# Altium footprint library Board to Board.PcbLib: 3 footprints
Each footprint in its own frame and in the unit in brackets; x right, y up, seen from the top. Pads: shape width x height; smd on the part's side, far side on the other; paste and mask are expansions set on the pad; w line width, h text height; cw(c..) or ccw(c..) is an arc to the next point about the centre after c.
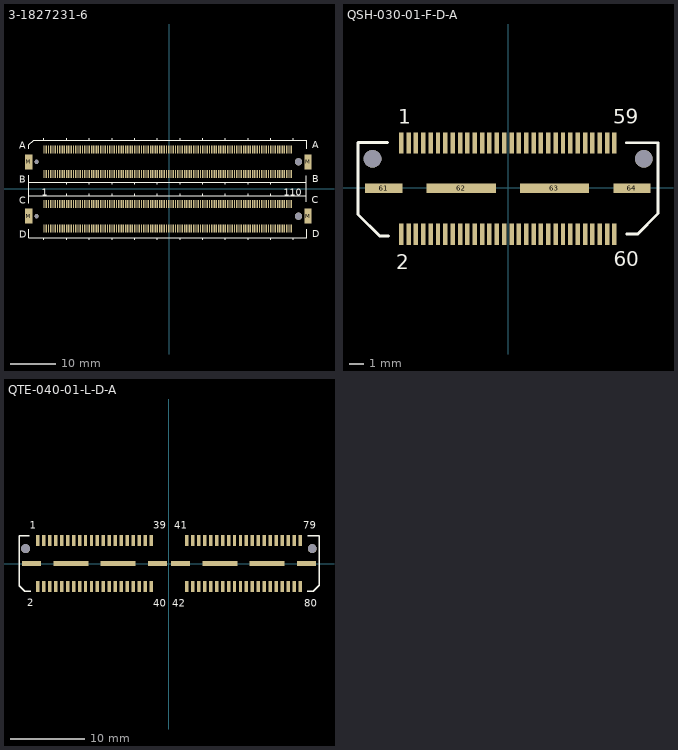
[diagram p0: the footprints below, top view; thin cyan lines are the x and y axes]

## 3-1827231-6 [mm] "FH-0.5 Board-To-Board Connector 440P"
height 5
pads (448):
  rect 0.3x1.75 smd: A001(-27.6,8.6) A002(-27.1,8.6) A003(-26.6,8.6) A004(-26.1,8.6) A005(-25.6,8.6) A006(-25.1,8.6) A007(-24.6,8.6) A008(-24.1,8.6) A009(-23.6,8.6) A010(-23.1,8.6) A011(-22.6,8.6) A012(-22.1,8.6) A013(-21.6,8.6) A014(-21.1,8.6) A015(-20.6,8.6) A016(-20.1,8.6) A017(-19.6,8.6) A018(-19.1,8.6) A019(-18.6,8.6) A020(-18.1,8.6) A021(-17.6,8.6) A022(-17.1,8.6) A023(-16.6,8.6) A024(-16.1,8.6) A025(-15.6,8.6) A026(-15.1,8.6) A027(-14.6,8.6) A028(-14.1,8.6) A029(-13.6,8.6) A030(-13.1,8.6) A031(-12.6,8.6) A032(-12.1,8.6) A033(-11.6,8.6) A034(-11.1,8.6) A035(-10.6,8.6) A036(-10.1,8.6) A037(-9.6,8.6) A038(-9.1,8.6) A039(-8.6,8.6) A040(-8.1,8.6) A041(-7.6,8.6) A042(-7.1,8.6) A043(-6.6,8.6) A044(-6.1,8.6) A045(-5.6,8.6) A046(-5.1,8.6) A047(-4.6,8.6) A048(-4.1,8.6) A049(-3.6,8.6) A050(-3.1,8.6) A051(-2.6,8.6) A052(-2.1,8.6) A053(-1.6,8.6) A054(-1.1,8.6) A055(-0.6,8.6) A056(-0.1,8.6) A057(0.4,8.6) A058(0.9,8.6) A059(1.4,8.6) A060(1.9,8.6) A061(2.4,8.6) A062(2.9,8.6) A063(3.4,8.6) A064(3.9,8.6) A065(4.4,8.6) A066(4.9,8.6) A067(5.4,8.6) A068(5.9,8.6) A069(6.4,8.6) A070(6.9,8.6) A071(7.4,8.6) A072(7.9,8.6) A073(8.4,8.6) A074(8.9,8.6) A075(9.4,8.6) A076(9.9,8.6) A077(10.4,8.6) A078(10.9,8.6) A079(11.4,8.6) A080(11.9,8.6) A081(12.4,8.6) A082(12.9,8.6) A083(13.4,8.6) A084(13.9,8.6) A085(14.4,8.6) A086(14.9,8.6) A087(15.4,8.6) A088(15.9,8.6) A089(16.4,8.6) A090(16.9,8.6) A091(17.4,8.6) A092(17.9,8.6) A093(18.4,8.6) A094(18.9,8.6) A095(19.4,8.6) A096(19.9,8.6) A097(20.4,8.6) A098(20.9,8.6) A099(21.4,8.6) A100(21.9,8.6) A101(22.4,8.6) A102(22.9,8.6) A103(23.4,8.6) A104(23.9,8.6) A105(24.4,8.6) A106(24.9,8.6) A107(25.4,8.6) A108(25.9,8.6) A109(26.4,8.6) A110(26.9,8.6) B001(-27.6,3.2) B002(-27.1,3.2) B003(-26.6,3.2) B004(-26.1,3.2) B005(-25.6,3.2) B006(-25.1,3.2) B007(-24.6,3.2) B008(-24.1,3.2) B009(-23.6,3.2) B010(-23.1,3.2) B011(-22.6,3.2) B012(-22.1,3.2) B013(-21.6,3.2) B014(-21.1,3.2) B015(-20.6,3.2) B016(-20.1,3.2) B017(-19.6,3.2) B018(-19.1,3.2) B019(-18.6,3.2) B020(-18.1,3.2) B021(-17.6,3.2) B022(-17.1,3.2) B023(-16.6,3.2) B024(-16.1,3.2) B025(-15.6,3.2) B026(-15.1,3.2) B027(-14.6,3.2) B028(-14.1,3.2) B029(-13.6,3.2) B030(-13.1,3.2) B031(-12.6,3.2) B032(-12.1,3.2) B033(-11.6,3.2) B034(-11.1,3.2) B035(-10.6,3.2) B036(-10.1,3.2) B037(-9.6,3.2) B038(-9.1,3.2) B039(-8.6,3.2) B040(-8.1,3.2) B041(-7.6,3.2) B042(-7.1,3.2) B043(-6.6,3.2) B044(-6.1,3.2) B045(-5.6,3.2) B046(-5.1,3.2) B047(-4.6,3.2) B048(-4.1,3.2) B049(-3.6,3.2) B050(-3.1,3.2) B051(-2.6,3.2) B052(-2.1,3.2) B053(-1.6,3.2) B054(-1.1,3.2) B055(-0.6,3.2) B056(-0.1,3.2) B057(0.4,3.2) B058(0.9,3.2) B059(1.4,3.2) B060(1.9,3.2) B061(2.4,3.2) B062(2.9,3.2) B063(3.4,3.2) B064(3.9,3.2) B065(4.4,3.2) B066(4.9,3.2) B067(5.4,3.2) B068(5.9,3.2) B069(6.4,3.2) B070(6.9,3.2) B071(7.4,3.2) B072(7.9,3.2) B073(8.4,3.2) B074(8.9,3.2) B075(9.4,3.2) B076(9.9,3.2) B077(10.4,3.2) B078(10.9,3.2) B079(11.4,3.2) B080(11.9,3.2) B081(12.4,3.2) B082(12.9,3.2) B083(13.4,3.2) B084(13.9,3.2) B085(14.4,3.2) B086(14.9,3.2) B087(15.4,3.2) B088(15.9,3.2) B089(16.4,3.2) B090(16.9,3.2) B091(17.4,3.2) B092(17.9,3.2) B093(18.4,3.2) B094(18.9,3.2) B095(19.4,3.2) B096(19.9,3.2) B097(20.4,3.2) B098(20.9,3.2) B099(21.4,3.2) B100(21.9,3.2) B101(22.4,3.2) B102(22.9,3.2) B103(23.4,3.2) B104(23.9,3.2) B105(24.4,3.2) B106(24.9,3.2) B107(25.4,3.2) B108(25.9,3.2) B109(26.4,3.2) B110(26.9,3.2) C001(-27.6,-3.4) C002(-27.1,-3.4) C003(-26.6,-3.4) C004(-26.1,-3.4) C005(-25.6,-3.4) C006(-25.1,-3.4) C007(-24.6,-3.4) C008(-24.1,-3.4) C009(-23.6,-3.4) C010(-23.1,-3.4) C011(-22.6,-3.4) C012(-22.1,-3.4) C013(-21.6,-3.4) C014(-21.1,-3.4) C015(-20.6,-3.4) C016(-20.1,-3.4) C017(-19.6,-3.4) C018(-19.1,-3.4) C019(-18.6,-3.4) C020(-18.1,-3.4) C021(-17.6,-3.4) C022(-17.1,-3.4) C023(-16.6,-3.4) C024(-16.1,-3.4) C025(-15.6,-3.4) C026(-15.1,-3.4) C027(-14.6,-3.4) C028(-14.1,-3.4) C029(-13.6,-3.4) C030(-13.1,-3.4) C031(-12.6,-3.4) C032(-12.1,-3.4) C033(-11.6,-3.4) C034(-11.1,-3.4) C035(-10.6,-3.4) C036(-10.1,-3.4) C037(-9.6,-3.4) C038(-9.1,-3.4) C039(-8.6,-3.4) C040(-8.1,-3.4) C041(-7.6,-3.4) C042(-7.1,-3.4) C043(-6.6,-3.4) C044(-6.1,-3.4) C045(-5.6,-3.4) C046(-5.1,-3.4) C047(-4.6,-3.4) C048(-4.1,-3.4) C049(-3.6,-3.4) C050(-3.1,-3.4) C051(-2.6,-3.4) C052(-2.1,-3.4) C053(-1.6,-3.4) C054(-1.1,-3.4) C055(-0.6,-3.4) C056(-0.1,-3.4) C057(0.4,-3.4) C058(0.9,-3.4) C059(1.4,-3.4) C060(1.9,-3.4) C061(2.4,-3.4) C062(2.9,-3.4) C063(3.4,-3.4) C064(3.9,-3.4) C065(4.4,-3.4) C066(4.9,-3.4) C067(5.4,-3.4) C068(5.9,-3.4) C069(6.4,-3.4) C070(6.9,-3.4) C071(7.4,-3.4) C072(7.9,-3.4) C073(8.4,-3.4) C074(8.9,-3.4) C075(9.4,-3.4) C076(9.9,-3.4) C077(10.4,-3.4) C078(10.9,-3.4) C079(11.4,-3.4) C080(11.9,-3.4) C081(12.4,-3.4) C082(12.9,-3.4) C083(13.4,-3.4) C084(13.9,-3.4) C085(14.4,-3.4) C086(14.9,-3.4) C087(15.4,-3.4) C088(15.9,-3.4) C089(16.4,-3.4) C090(16.9,-3.4) C091(17.4,-3.4) C092(17.9,-3.4) C093(18.4,-3.4) C094(18.9,-3.4) C095(19.4,-3.4) C096(19.9,-3.4) C097(20.4,-3.4) C098(20.9,-3.4) C099(21.4,-3.4) C100(21.9,-3.4) C101(22.4,-3.4) C102(22.9,-3.4) C103(23.4,-3.4) C104(23.9,-3.4) C105(24.4,-3.4) C106(24.9,-3.4) C107(25.4,-3.4) C108(25.9,-3.4) C109(26.4,-3.4) C110(26.9,-3.4) D001(-27.6,-8.8) D002(-27.1,-8.8) D003(-26.6,-8.8) D004(-26.1,-8.8) D005(-25.6,-8.8) D006(-25.1,-8.8) D007(-24.6,-8.8) D008(-24.1,-8.8) D009(-23.6,-8.8) D010(-23.1,-8.8) D011(-22.6,-8.8) D012(-22.1,-8.8) D013(-21.6,-8.8) D014(-21.1,-8.8) D015(-20.6,-8.8) D016(-20.1,-8.8) D017(-19.6,-8.8) D018(-19.1,-8.8) D019(-18.6,-8.8) D020(-18.1,-8.8) D021(-17.6,-8.8) D022(-17.1,-8.8) D023(-16.6,-8.8) D024(-16.1,-8.8) D025(-15.6,-8.8) D026(-15.1,-8.8) D027(-14.6,-8.8) D028(-14.1,-8.8) D029(-13.6,-8.8) D030(-13.1,-8.8) D031(-12.6,-8.8) D032(-12.1,-8.8) D033(-11.6,-8.8) D034(-11.1,-8.8) D035(-10.6,-8.8) D036(-10.1,-8.8) D037(-9.6,-8.8) D038(-9.1,-8.8) D039(-8.6,-8.8) D040(-8.1,-8.8) D041(-7.6,-8.8) D042(-7.1,-8.8) D043(-6.6,-8.8) D044(-6.1,-8.8) D045(-5.6,-8.8) D046(-5.1,-8.8) D047(-4.6,-8.8) D048(-4.1,-8.8) D049(-3.6,-8.8) D050(-3.1,-8.8) D051(-2.6,-8.8) D052(-2.1,-8.8) D053(-1.6,-8.8) D054(-1.1,-8.8) D055(-0.6,-8.8) D056(-0.1,-8.8) D057(0.4,-8.8) D058(0.9,-8.8) D059(1.4,-8.8) D060(1.9,-8.8) D061(2.4,-8.8) D062(2.9,-8.8) D063(3.4,-8.8) D064(3.9,-8.8) D065(4.4,-8.8) D066(4.9,-8.8) D067(5.4,-8.8) D068(5.9,-8.8) D069(6.4,-8.8) D070(6.9,-8.8) D071(7.4,-8.8) D072(7.9,-8.8) D073(8.4,-8.8) D074(8.9,-8.8) D075(9.4,-8.8) D076(9.9,-8.8) D077(10.4,-8.8) D078(10.9,-8.8) D079(11.4,-8.8) D080(11.9,-8.8) D081(12.4,-8.8) D082(12.9,-8.8) D083(13.4,-8.8) D084(13.9,-8.8) D085(14.4,-8.8) D086(14.9,-8.8) D087(15.4,-8.8) D088(15.9,-8.8) D089(16.4,-8.8) D090(16.9,-8.8) D091(17.4,-8.8) D092(17.9,-8.8) D093(18.4,-8.8) D094(18.9,-8.8) D095(19.4,-8.8) D096(19.9,-8.8) D097(20.4,-8.8) D098(20.9,-8.8) D099(21.4,-8.8) D100(21.9,-8.8) D101(22.4,-8.8) D102(22.9,-8.8) D103(23.4,-8.8) D104(23.9,-8.8) D105(24.4,-8.8) D106(24.9,-8.8) D107(25.4,-8.8) D108(25.9,-8.8) D109(26.4,-8.8) D110(26.9,-8.8)
  round 0.9 hole 0.9 unplated paste+0 mask+0: H09(-29.2,-6.1) H09(-29.2,5.9)
  round 1.6 hole 1.6 unplated paste+0 mask+0: H16(28.5,-6.1) H16(28.5,5.9)
  rect 1.65x3.3 smd: M(-30.9,-6.1) M(-30.9,5.9) M(30.6,-6.1) M(30.6,5.9)
Top Overlay:
  lines w0.254: -30.9,-9 -30.9,-10.8 30.3,-10.8 30.3,-9 ; -30.9,-3.2 -30.9,2.9 ; -30.9,-1.6 30.2,-1.6 ; -30.9,8.8 -30.9,9.6 -29.9,10.6 30.3,10.6 30.3,8.8 ; -30.8,1.4 30.2,1.4 ; -27.6,-11.3 -27.6,-10.8 ; -27.6,10.6 -27.6,11.1 ; -22.6,-11.3 -22.6,-10.8 ; -22.6,-1.6 -22.6,-1.1 ; -22.6,0.9 -22.6,1.4 ; -22.6,10.6 -22.6,11.1 ; -17.6,-11.3 -17.6,-10.8 ; -17.6,-1.6 -17.6,-1.1 ; -17.6,0.9 -17.6,1.4 ; -17.6,10.6 -17.6,11.1 ; -12.6,-11.3 -12.6,-10.8 ; -12.6,-1.6 -12.6,-1.1 ; -12.6,0.9 -12.6,1.4 ; -12.6,10.6 -12.6,11.1 ; -7.6,-11.3 -7.6,-10.8 ; -7.6,-1.6 -7.6,-1.1 ; -7.6,0.9 -7.6,1.4 ; -7.6,10.6 -7.6,11.1 ; -2.6,-11.3 -2.6,-10.8 ; -2.6,-1.6 -2.6,-1.1 ; -2.6,0.9 -2.6,1.4 ; -2.6,10.6 -2.6,11.1 ; 2.4,-11.3 2.4,-10.8 ; 2.4,-1.6 2.4,-1.1 ; 2.4,0.9 2.4,1.4 ; 2.4,10.6 2.4,11.1 ; 7.4,-11.3 7.4,-10.8 ; 7.4,-1.6 7.4,-1.1 ; 7.4,0.9 7.4,1.4 ; 7.4,10.6 7.4,11.1 ; 12.4,-11.3 12.4,-10.8 ; 12.4,-1.6 12.4,-1.1 ; 12.4,0.9 12.4,1.4 ; 12.4,10.6 12.4,11.1 ; 17.4,-11.3 17.4,-10.8 ; 17.4,-1.6 17.4,-1.1 ; 17.4,0.9 17.4,1.4 ; 17.4,10.6 17.4,11.1 ; 22.4,-11.3 22.4,-10.8 ; 22.4,-1.6 22.4,-1.1 ; 22.4,0.9 22.4,1.4 ; 22.4,10.6 22.4,11.1 ; 27.4,-11.3 27.4,-10.8 ; 27.4,10.6 27.4,11.1 ; 30.2,-2.9 30.2,2.8
  text "D" at 31.5,-10.7 h1.52
  text "C" at 31.4,-3.2 h1.52
  text "B" at 31.5,1.4 h1.52
  text "A" at 31.5,8.9 h1.52
  text "A" at -33,8.8 h1.52
  text "B" at -33,1.3 h1.52
  text "C" at -33.1,-3.3 h1.52
  text "D" at -33,-10.8 h1.52
  text "1" at -28.1,-1.6 h1.52
  text "110" at 25.3,-1.6 h1.52
3D body "11530.stp": height 3.25, standoff -0.65, extent -31.2,-9 30.6,9.2

## QSH-030-01-F-D-A [mm] "CONN HEADER 60POS 0.5MM SMT"
height 8
pads (66):
  rect 0.305x1.45 smd mask+0.05: 1(-7.26,3.05) 2(-7.26,-3.15) 3(-6.76,3.05) 4(-6.76,-3.15) 5(-6.26,3.05) 6(-6.26,-3.15) 7(-5.76,3.05) 8(-5.76,-3.15) 9(-5.26,3.05) 10(-5.26,-3.15) 11(-4.76,3.05) 12(-4.76,-3.15) 13(-4.26,3.05) 14(-4.26,-3.15) 15(-3.76,3.05) 16(-3.76,-3.15) 17(-3.26,3.05) 18(-3.26,-3.15) 19(-2.76,3.05) 20(-2.76,-3.15) 21(-2.26,3.05) 22(-2.26,-3.15) 23(-1.76,3.05) 24(-1.76,-3.15) 25(-1.26,3.05) 26(-1.26,-3.15) 27(-0.76,3.05) 28(-0.76,-3.15) 29(-0.26,3.05) 30(-0.26,-3.15) 31(0.24,3.05) 32(0.24,-3.15) 33(0.74,3.05) 34(0.74,-3.15) 35(1.24,3.05) 36(1.24,-3.15) 37(1.74,3.05) 38(1.74,-3.15) 39(2.24,3.05) 40(2.24,-3.15) 41(2.74,3.05) 42(2.74,-3.15) 43(3.24,3.05) 44(3.24,-3.15) 45(3.74,3.05) 46(3.74,-3.15) 47(4.24,3.05) 48(4.24,-3.15) 49(4.74,3.05) 50(4.74,-3.15) 51(5.24,3.05) 52(5.24,-3.15) 53(5.74,3.05) 54(5.74,-3.15) 55(6.24,3.05) 56(6.24,-3.15) 57(6.74,3.05) 58(6.74,-3.15) 59(7.24,3.05) 60(7.24,-3.15)
  rect 2.54x0.64 smd mask+0.102: 61(-8.45,-0.02) 64(8.43,-0.03)
  rect 4.7x0.64 smd mask+0.102: 62(-3.18,-0.02) 63(3.16,-0.03)
  round 1.2 hole 1.2 unplated paste+0 mask+0: ""(-9.21,1.975) ""(9.235,1.975)
Top Overlay:
  lines w0.2: -8.2,3.075 -10.2,3.075 -10.2,-1.8 -8.722,-3.278 -8.125,-3.278 ; 8.05,3.07 10.2,3.07 10.2,-1.75 8.8,-3.15 8.075,-3.15
  text "59" at 7.15,4.375 h1
  text "60" at 7.175,-5.325 h1
  text "2" at -7.6,-5.525 h1
  text "1" at -7.45,4.375 h1
3D body "QTH-030-01-F-D-A.stp": height 4.06, standoff -0.97, extent -10.007,-3.606 10.008,3.506

## QTE-040-01-L-D-A [mm] "CONN HEADER 80POS 0.8MM SMT"
height 8
pads (90):
  rect 0.46x1.45 smd mask+0.05: 1(-17.6,3.1) 2(-17.6,-3.08) 3(-16.8,3.1) 4(-16.8,-3.08) 5(-16,3.1) 6(-16,-3.08) 7(-15.2,3.1) 8(-15.2,-3.08) 9(-14.4,3.1) 10(-14.4,-3.08) 11(-13.6,3.1) 12(-13.6,-3.08) 13(-12.8,3.1) 14(-12.8,-3.08) 15(-12,3.1) 16(-12,-3.08) 17(-11.2,3.1) 18(-11.2,-3.08) 19(-10.4,3.1) 20(-10.4,-3.08) 21(-9.6,3.1) 22(-9.6,-3.08) 23(-8.8,3.1) 24(-8.8,-3.08) 25(-8,3.1) 26(-8,-3.08) 27(-7.2,3.1) 28(-7.2,-3.08) 29(-6.4,3.1) 30(-6.4,-3.08) 31(-5.6,3.1) 32(-5.6,-3.08) 33(-4.8,3.1) 34(-4.8,-3.08) 35(-4,3.1) 36(-4,-3.08) 37(-3.2,3.1) 38(-3.2,-3.08) 39(-2.4,3.1) 40(-2.4,-3.08) 41(2.4,3.1) 42(2.4,-3.08) 43(3.2,3.1) 44(3.2,-3.08) 45(4,3.1) 46(4,-3.08) 47(4.8,3.1) 48(4.8,-3.08) 49(5.6,3.1) 50(5.6,-3.08) 51(6.4,3.1) 52(6.4,-3.08) 53(7.2,3.1) 54(7.2,-3.08) 55(8,3.1) 56(8,-3.08) 57(8.8,3.1) 58(8.8,-3.08) 59(9.6,3.1) 60(9.6,-3.08) 61(10.4,3.1) 62(10.4,-3.08) 63(11.2,3.1) 64(11.2,-3.08) 65(12,3.1) 66(12,-3.08) 67(12.8,3.1) 68(12.8,-3.08) 69(13.6,3.1) 70(13.6,-3.08) 71(14.4,3.1) 72(14.4,-3.08) 73(15.2,3.1) 74(15.2,-3.08) 75(16,3.1) 76(16,-3.08) 77(16.8,3.1) 78(16.8,-3.08) 79(17.6,3.1) 80(17.6,-3.08)
  rect 2.54x0.64 smd: 81(-18.46,0.01) 84(-1.56,0.01) 85(1.56,0.01) 88(18.44,0.01)
  rect 4.7x0.64 smd: 82(-13.18,0.01) 83(-6.83,0.01) 86(6.82,0.01) 87(13.17,0.01)
  round 1.2 hole 1.2 unplated paste+0 mask+0: ""(-19.24,2.01) ""(19.23,2.02)
Top Overlay:
  lines w0.2: -18.77,3.72 -20.13,3.72 -20.13,-2.94 -19.38,-3.69 -18.525,-3.69 ; 18.53,-3.68 19.38,-3.68 20.14,-2.92 20.14,3.72 18.66,3.72
  text "39" at -2.08,4.67 h1
  text "40" at -2.14,-5.77 h1
  text "2" at -19.05,-5.74 h1
  text "1" at -18.7,4.67 h1
  text "41" at 0.72,4.67 h1
  text "42" at 0.44,-5.76 h1
  text "79" at 18.04,4.68 h1
  text "80" at 18.16,-5.76 h1
3D body "QTE-040-01-L-D-A.stp": height 4.26, standoff -0.71, extent -20.003,-3.546 20.002,3.566